# EAGLE library part HRS-SDMICRO (library matt)
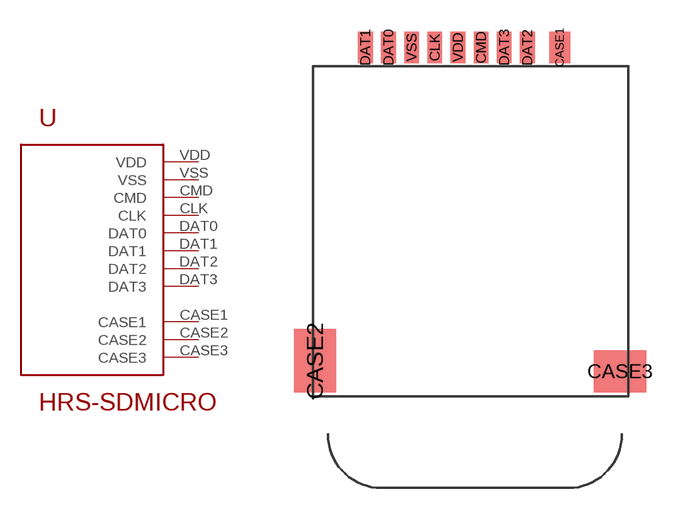
[diagram p3: symbol with the pads of HRS-MICROSD; footprint HRS-MICROSD]

Designator prefix -

## HRS-SDMICRO  [HRS-MICROSD]
CASE1  CASE1
CASE2  CASE2
CASE3  CASE3
CLK  CLK
CMD  CMD
DAT0  DAT0
DAT1  DAT1
DAT2  DAT2
DAT3  DAT3
VDD  VDD
VSS  VSS

## Footprint HRS-MICROSD (pad centres in mm)
smd 1 x 1.5: CASE1 5.95,1.9
smd 2 x 3: CASE2 -5.7,-13
smd 2.5 x 2: CASE3 8.8,-13.5
smd 0.7 x 1.5: CLK 0,1.9; CMD 2.2,1.9; DAT0 -2.2,1.9; DAT1 -3.3,1.9; DAT2 4.4,1.9; DAT3 3.3,1.9; VDD 1.1,1.9; VSS -1.1,1.9